# Altium footprint library ds1013_08rsib_b_0.PcbLib: 1 footprints
Each footprint in its own frame and in the unit in brackets; x right, y up, seen from the top. Pads: shape width x height; smd on the part's side, far side on the other; paste and mask are expansions set on the pad; w line width, h text height; cw(c..) or ccw(c..) is an arc to the next point about the centre after c.
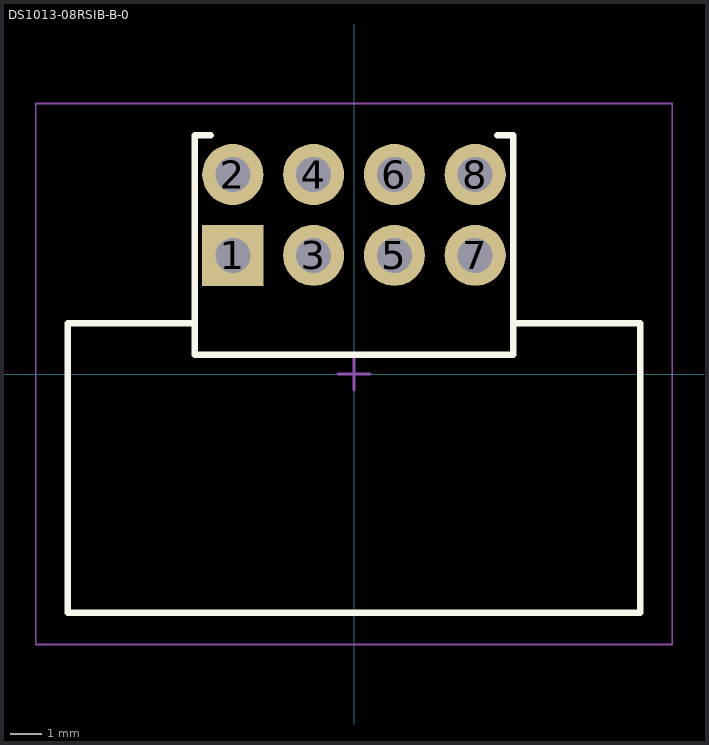
[diagram p0: the footprint, top view; thin cyan lines are the x and y axes]

## DS1013-08RSIB-B-0 [mm] "BH 8 pins 2,54mm Plug Header R/A Type"
height 9.1
pads (8):
  rect 1.92x1.92 hole 1.1: 1(-3.81,3.73)
  round 1.92 hole 1.1: 2(-3.81,6.27) 3(-1.27,3.73) 4(-1.27,6.27) 5(1.27,3.73) 6(1.27,6.27) 7(3.81,3.73) 8(3.81,6.27)
Top Overlay:
  lines w0.2: -4.5,7.5 -5,7.5 -5,1.6 ; 4.5,7.5 5,7.5 5,1.6 ; -5,1.6 -9,1.6 -9,-7.5 9,-7.5 9,1.6 5,1.6 ; -5,1.6 -5,0.6 5,0.6 5,1.6
Top Comment:
  text ".Comment" at 1.25,9 h1.2
Top Designator:
  text ".Designator" at -0.75,9 h1.2
Top Component Outline:
  lines w0.1: -9,-7.5 9,-7.5 9,1.6 5,1.6 5,0.6 -5,0.6 -5,1.6 -9,1.6 -9,-7.5
Top Courtyard (Mech15):
  lines w0.05: -10,-8.5 10,-8.5 10,8.5 -10,8.5 -10,-8.5
  lines w0.1: -0.5,0 0.5,0 ; 0,-0.5 0,0.5
3D body "DS1013-08RSiB-B-0.STEP": height 8.9, standoff -3, extent -8.98,-7.43 8.98,6.59